# Altium footprint library TE_3-644456-9.PcbLib: 1 footprints
Each footprint in its own frame and in the unit in brackets; x right, y up, seen from the top. Pads: shape width x height; smd on the part's side, far side on the other; paste and mask are expansions set on the pad; w line width, h text height; cw(c..) or ccw(c..) is an arc to the next point about the centre after c.
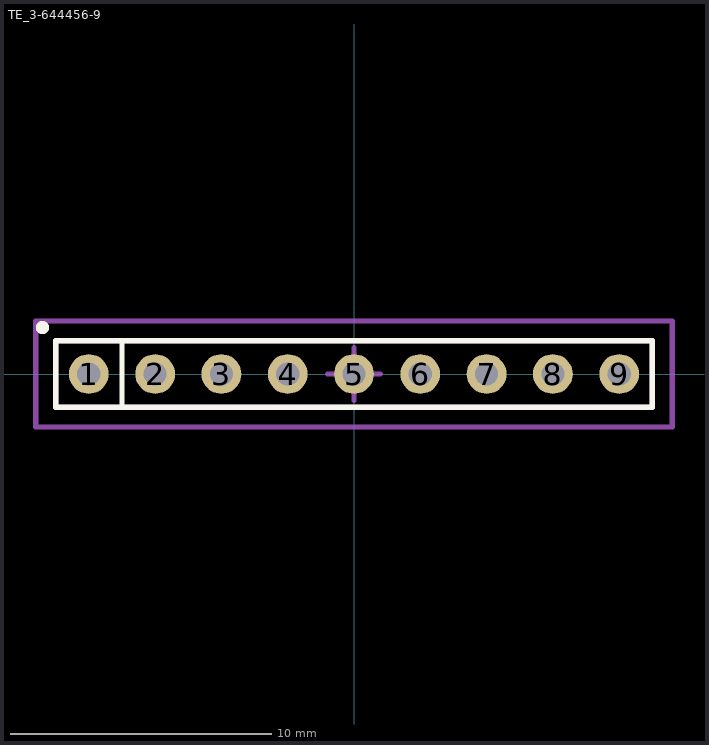
[diagram p0: the footprint, top view; thin cyan lines are the x and y axes]

## TE_3-644456-9 [mil]
pads (9):
  round 60 hole 35: 1(-400,0) 2(-300,0) 3(-200,0) 4(-100,0) 5(0,0) 6(100,0) 7(200,0) 8(300,0) 9(400,0)
Top Overlay:
  circle w10: c-470,70 r5
  lines w7.87: -350,-50 -350,50 ; -450,-50 450,-50 450,50 -450,50 -450,-50
Mechanical 15:
  lines w7.87: -40,0 40,0 ; 0,-40 0,40 ; -480,-80 480,-80 480,80 -480,80 -480,-80
Mechanical 17:
  lines w7.87: -450,-50 -450,50 450,50 450,-50 -450,-50
  text ".Designator" at -440,-40 h30
Mechanical 19:
  lines w7.87: -450,-50 450,-50 450,50 -450,50 -450,-50
  text ".Comment" at -435,-35 h30
3D body: height 395, standoff -110, extent -444.09,-45.99 444.11,46.01